# Altium schematic symbol library RT9400.SchLib: 1 symbol
Pins are listed as number, name and electrical type; pins without a type are passive.

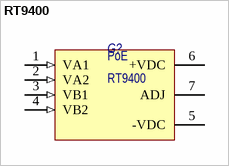
[diagram p0: symbol RT9400]

## RT9400
designator G?
13W POE PD Module ( Isolation Model); Наименование: RT9400-12V; Потребление, Вт: 1.0; Назначение: 13W POE PD Module ( Isolation Model)
footprint RT9400
pins: 1 VA1 (in) "RX Input", 2 VA2 (in) "TX Input", 3 VB1 (in) "Direct Input", 4 VB2 (in) "Direct Input", 5 -VDC (power) "DC Return", 6 +VDC (power) "DC Return", 7 ADJ (power) "Output Adjust"
text: PoE